# Altium schematic symbol library Zener Diode.SchLib: 10 symbols
Pins are listed as number, name and electrical type; pins without a type are passive.

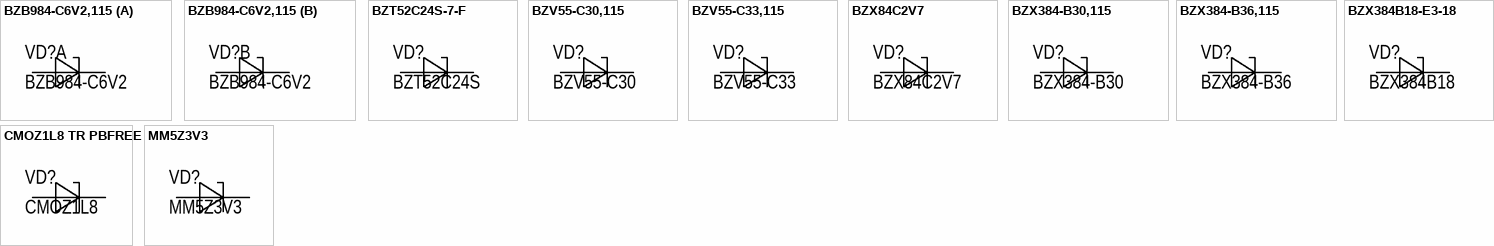
[diagram p0: symbols BZB984-C6V2,115 to MM5Z3V3]

## BZB984-C6V2,115
designator VD?, comment BZB984-C6V2
Zener Diode Array 1 Pair Common Anode 6.2 V 265 mW ±5% SOT-663; Manufacture: NXP Semiconductors; Model: BZB984-C6V2,115; Name: Стабилитрон; Case: SOT-663; HelpURL: https://www.digikey.com/en/products/detail/rochester-electronics-llc/BZB984-C6V2-115/13431733; Value: BZB984-C6V2
footprint SOT-663
part A pins: 1 C, 3 A
part B pins: 2 C, 3 A

## BZT52C24S-7-F
designator VD?, comment BZT52C24S
Zener Diode 18 V 200 mW ±2% Surface Mount SOD-323; Manufacture: Diodes Incorporated; Model: BZT52C24S-7-F; Name: Стабилитрон; Case: SC-76, SOD-323; HelpURL: https://www.digikey.com/en/products/detail/diodes-incorporated/BZT52C24S-7-F/768781; Value: BZT52C24S
footprint SC-76, SOD-323
pins: 1 C, 2 A

## BZV55-C30,115
designator VD?, comment BZV55-C30
Zener Diode 30 V 500 mW ±5% Surface Mount LLDS; MiniMelf / DO-213AC, MINI-MELF, SOD-80; Manufacture: Nexperia USA Inc.; Model: BZV55-C30,115; Name: Стабилитрон; Case: SOD-80; HelpURL: https://www.digikey.com/en/products/detail/nexperia-usa-inc/BZV55-C30-115/1155566; Value: BZV55-C30
footprint SOD-80
pins: 1 C, 2 A

## BZV55-C33,115
designator VD?, comment BZV55-C33
Zener Diode 33 V 500 mW ±5% Surface Mount LLDS; MiniMelf; Manufacture: Nexperia USA Inc.; Model: BZV55-C33,115; Name: Стабилитрон; Case: SOD-80; HelpURL: https://www.digikey.com/en/products/detail/nexperia-usa-inc/BZV55-C33-115/1155568; Value: BZV55-C33
footprint SOD-80
pins: 1 C, 2 A

## BZX84C2V7
designator VD?
Zener Diode 2.7 V 300 mW ±5% Surface Mount SOT-23-3 (TO-236); Manufacture: Diotec Semiconductor; Name: Стабилитрон; Case: SOT-23-3 (TO-236); HelpURL: https://www.digikey.com/en/products/detail/diotec-semiconductor/BZX84C2V7/13564831; Value: BZX84C2V7; Model: BZX84C2V7
footprint SOT-23-3 (TO-236)
pins: 1 A, 3 C

## BZX384-B30,115
designator VD?, comment BZX384-B30
Zener Diode 30 V 300 mW ±2% Surface Mount SOD-323; Manufacture: Nexperia USA Inc.; Model: BZX384-B30,115; Name: Стабилитрон; Case: SC-76, SOD-323; HelpURL: https://www.digikey.com/en/products/detail/nexperia-usa-inc/BZX384-B30-115/1162907; Value: BZX384-B30
footprint SC-76, SOD-323
pins: 1 C, 2 A

## BZX384-B36,115
designator VD?, comment BZX384-B36
Zener Diode 36 V 300 mW ±2% Surface Mount SOD-323; Manufacture: Nexperia USA Inc.; Model: BZX384-B36,115; Name: Стабилитрон; Case: SC-76, SOD-323; HelpURL: https://www.digikey.com/en/products/detail/nexperia-usa-inc/BZX384-B36-115/1162909; Value: BZX384-B36
footprint SC-76, SOD-323
pins: 1 C, 2 A

## BZX384B18-E3-18
designator VD?, comment BZX384B18
Zener Diode 18 V 200 mW ±2% Surface Mount SOD-323; Manufacture: Vishay General Semiconductor - Diodes Division; Model: BZX384B18-E3-18; Name: Стабилитрон; Case: SC-76, SOD-323; HelpURL: https://www.digikey.com/en/products/detail/vishay-general-semiconductor-diodes-division/BZX384B18-E3-18/4827940; Value: BZX384B18
footprint SC-76, SOD-323
pins: 1 C, 2 A

## CMOZ1L8 TR PBFREE
designator VD?, comment CMOZ1L8
Zener Diode 1.8 V 250 mW ±5% Surface Mount SOD-523; Manufacture: Central Semiconductor Corp; Model: CMOZ1L8 TR PBFREE; Name: Стабилитрон; Case: SOD-523; HelpURL: https://www.digikey.com/en/products/detail/central-semiconductor-corp/CMOZ1L8-TR-PBFREE/5212743; Value: CMOZ1L8
footprint SOD-523
pins: 1 C, 2 A

## MM5Z3V3
designator VD?
Zener Diode 3.3 V 200 mW ±6% Surface Mount SOD-523F; Manufacture: onsemi; Name: Стабилитрон; Case: SOD-523; HelpURL: https://www.digikey.com/en/products/detail/onsemi/MM5Z3V3/1954764?s=N4IgjCBcpgbFoDGUBmBDANgZwKYBoQB7KAbRABYAGSgJnIHYQBdAgBwBcoQBldgJwCWAOwDmIAL4EAnDUoIQySOmz4ipEAGYAdBoAEANWZtOkEAFUhA9gHkUAWRxosAVz44J48UA; Value: MM5Z3V3; Model: MM5Z3V3
footprint SOD-523
pins: 1 C, 2 A